# Altium footprint library PcbLib1.PcbLib: 3 footprints
Each footprint in its own frame and in the unit in brackets; x right, y up, seen from the top. Pads: shape width x height; smd on the part's side, far side on the other; paste and mask are expansions set on the pad; w line width, h text height; cw(c..) or ccw(c..) is an arc to the next point about the centre after c.
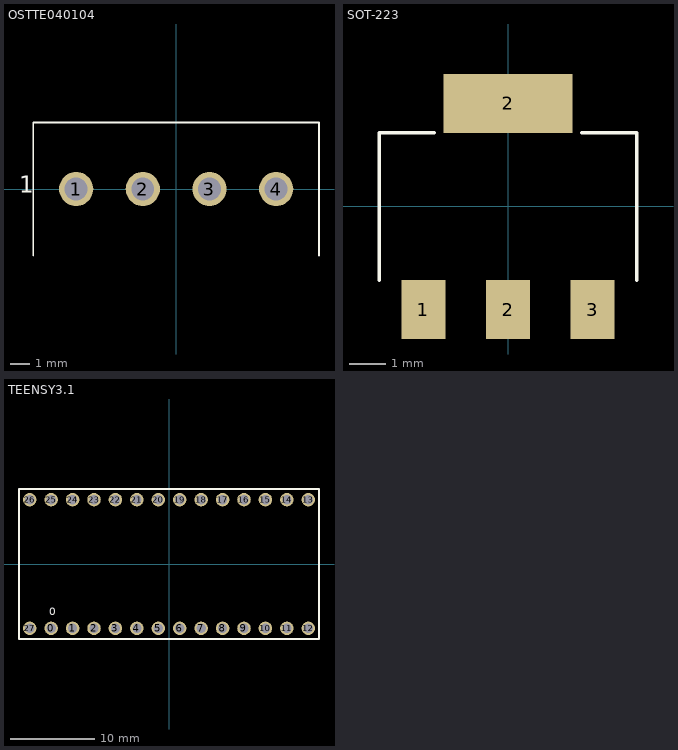
[diagram p0: the footprints below, top view; thin cyan lines are the x and y axes]

## OSTTE040104 [mm] "TERMINAL BLOCK 3.5MM 4POS PCB"
pads (4):
  round 1.8 hole 1.2 unplated: 1(-5.25,0) 2(-1.75,0) 3(1.75,0) 4(5.25,0)
Top Overlay:
  lines w0.1: -7.5,-3.5 -7.5,3.5 7.5,3.5 7.5,-3.5
  text "1" at -8.25,-0.5 h1.52
3D body: height 8.4, standoff 0, extent -7.5,-3.5 7.5,3.5

## SOT-223 [mm] "SOT-223"
pads (4):
  rect 1.2x1.6 smd: 1(-2.3,-2.8) 2(0,-2.8) 3(2.3,-2.8)
  rect 3.5x1.6 smd: 2(0,2.8)
Top Overlay:
  lines w0.1: -3.5,-2 -3.5,1.75 -3.5,2 -2,2 ; 2,2 3.5,2 3.5,1.75 3.5,-2
3D body: height 1.82, standoff 0.02, extent -3.25,-1.75 3.25,1.75

## TEENSY3.1 [mil]
pads (28):
  round 63 hole 43 unplated: 0(-550,-300) 1(-450,-300) 2(-350,-300) 3(-250,-300) 4(-150,-300) 5(-50,-300) 6(50,-300) 7(150,-300) 8(250,-300) 9(350,-300) 10(450,-300) 11(550,-300) 12(650,-300) 13(650,300) 14(550,300) 15(450,300) 16(350,300) 17(250,300) 18(150,300) 19(50,300) 20(-50,300) 21(-150,300) 22(-250,300) 23(-350,300) 24(-450,300) 25(-550,300) 26(-650,300) 27(-650,-300)
Top Overlay:
  lines w7.87: -700,-350 700,-350 700,350 -700,350 -700,-350
  text "0" at -560,-250 h60